# Altium schematic symbol library JACK.SchLib: 1 symbol
Pins are listed as number, name and electrical type; pins without a type are passive.

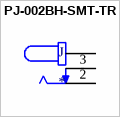
[diagram p0: symbol PJ-002BH-SMT-TR]

## PJ-002BH-SMT-TR
designator J
2.5 x 6.5 mm, 5.0 A, Horizontal, Surface Mount _SMT_, Dc Power Jack Connector; MF: CUI Devices; MP: PJ-002BH-SMT-TR; Package: None; CUI_purchase_URL: https://www.cuidevices.com/product/interconnect/connectors/dc-power-connectors/jacks/pj-002bh-smt-tr?utm_source=snapeda.com&utm_medium=referral&utm_campaign=snapedaBOM; Value: *; Price: None; SnapEDA_Link: https://www.snapeda.com/parts/PJ-002BH-SMT-TR/CUI%20Devices/view-part/378040/?ref=snap; Availability: Unavailable
footprint CUI_PJ-002BH-SMT-TR
pins: 1A 1, 1B 1, 2, 3